# Altium schematic symbol library Schematic Library.SchLib: 16 symbols
Pins are listed as number, name and electrical type; pins without a type are passive.

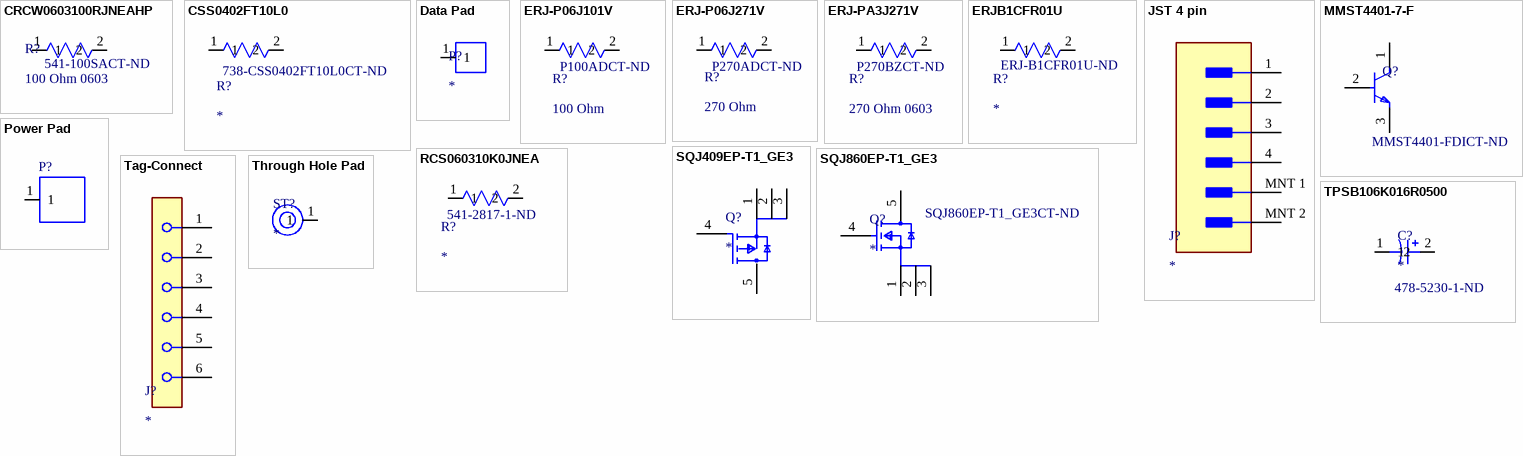
[diagram p0: symbols CRCW0603100RJNEAHP to TPSB106K016R0500]

## CRCW0603100RJNEAHP
designator R?, comment 100 Ohm 0603  Supplier Part Number 1: 541-100SACT-ND
Res Thick Film 0603 100 Ohm 5% 1/4W 200ppm/C Molded SMD SMD Paper T/R; Manufacturer: Vishay Dale; Manufacturer Part Number: CRCW0603100RJNEAHP; Resistance: 100R; Temperature Coefficient: 200ppm/°C; Power Rating: 250mW; Voltage Rating: 75V; Supplier 1: Digi-Key; RoHS: Yes; Category: Chip SMD Resistors; Stock 1: 23670; Pricing 1: 1=0.15000, 10=0.12900, 100=0.05060, 1000=0.02119, 2500=0.01942 (USD); Mount: Surface Mount; Case/Package: 0603; Case Code (Imperial): 0603; Case Code (Metric): 1608; Contact Plating: Tin; Weight: 7.1E-05oz; Min Operating Temperature: -55°C; Max Operating Temperature: 155°C; Tolerance: 5%; Packaging: Tape and Reel; Resistor Type: Thick Film; Series: CRCW-HP; Number of Terminations: 2; Package Quantity: 5000; Max Power Dissipation: 250mW; Termination: SMD/SMT; Construction: Rectangular; Features: Automotive AEC-Q200; Length: 1.6mm; Width: 0.8mm; Height: 0.45mm; Depth: 0.85mm; Radiation Hardening: No; RoHS Compliant: Yes; Military Standard: Not; Lead Free: Lead Free; ComponentLink1URL: https://datasheet.ciiva.com/5562/crcwhpe3-46056-5562229.pdf?src-supplier=Mouser; ComponentLink1Description: https://datasheet.ciiva.com/5562/crcwhpe3-46056-5562229.pdf?src-supplier=Mouser; ComponentLink2URL: https://datasheet.ciiva.com/8979/crcwhpe3-8979829.pdf?src-supplier=Avnet; ComponentLink2Description: https://datasheet.ciiva.com/8979/crcwhpe3-8979829.pdf?src-supplier=Avnet; ComponentLink3URL: https://datasheet.ciiva.com/16886/crcwhpe3-16886006.pdf?src-supplier=Avnet+Europe; ComponentLink3Description: https://datasheet.ciiva.com/16886/crcwhpe3-16886006.pdf?src-supplier=Avnet+Europe
footprint CRCW0603100RJNEAHP
pins: 1, 2

## CSS0402FT10L0
designator R?  Supplier Part Number 1: 738-CSS0402FT10L0CT-ND
Manufacturer: Stackpole Electronics; Manufacturer Part Number: CSS0402FT10L0; Supplier 1: Digi-Key; RoHS: No; Stock 1: 16958; Pricing 1: 1=0.56000, 10=0.40000, 25=0.31200, 50=0.26400, 100=0.20800, 250=0.17600, 500=0.14400, 1000=0.11200, 5000=0.10880 (USD)
footprint CSS0402FT10L0
pins: 1, 2

## Data Pad
designator P?  (no BOM)
footprint Data Pad
pins: 1

## ERJ-P06J101V
designator R?, comment 100 Ohm  Supplier Part Number 1: P100ADCT-ND
RES SMD 100 OHM 5% 1/2W 0805; Manufacturer: Panasonic; Manufacturer Part Number: ERJ-P06J101V; Resistance: 100R; Temperature Coefficient: 200ppm/°C; Power Rating: 500mW; Voltage Rating: 400V; Voltage Rating (DC): 150V; Supplier 1: Digi-Key; RoHS: Yes; Category: Chip SMD Resistors; Stock 1: 49980; Pricing 1: 1=0.10000, 10=0.09400, 100=0.03600, 1000=0.01584, 2500=0.01368 (USD); Mount: Surface Mount; Case/Package: 0805; Contact Plating: Tin; Case Code (Imperial): 0805; Case Code (Metric): 2012; Weight: 0.000194oz; Min Operating Temperature: -55°C; Max Operating Temperature: 155°C; Tolerance: 5%; Resistor Type: Thick Film; Packaging: Tape and Reel; Package Quantity: 1; Number of Terminations: 2; Max Power Dissipation: 500mW; Termination: SMD/SMT; Features: Automotive AEC-Q200; Length: 2mm; Width: 1.2mm; Height: 0.6mm; Depth: 1.25mm; Military Standard: Not; Lead Free: Lead Free; REACH SVHC: Unknown; ComponentLink1URL: https://datasheet.ciiva.com/11810/0900766b812cb812-11810156.pdf?src-supplier=RSComponents; ComponentLink1Description: https://datasheet.ciiva.com/11810/0900766b812cb812-11810156.pdf?src-supplier=RSComponents; ComponentLink2URL: https://datasheet.ciiva.com/16788/70068906-16788678.pdf?src-supplier=Allied+Electronics; ComponentLink2Description: https://datasheet.ciiva.com/16788/70068906-16788678.pdf?src-supplier=Allied+Electronics; ComponentLink3URL: https://datasheet.ciiva.com/24163/aoa0000ce4-64075-24163318.pdf?src-supplier=Mouser; ComponentLink3Description: https://datasheet.ciiva.com/24163/aoa0000ce4-64075-24163318.pdf?src-supplier=Mouser; ComponentLink4URL: https://datasheet.ciiva.com/7831/aoa0000ce4-7831000.pdf?src-supplier=Element14; ComponentLink4Description: https://datasheet.ciiva.com/7831/aoa0000ce4-7831000.pdf?src-supplier=Element14; ComponentLink5URL: https://datasheet.ciiva.com/17208/aoa0000ce4-17208010.pdf?src-supplier=Avnet+Europe; ComponentLink5Description: https://datasheet.ciiva.com/17208/aoa0000ce4-17208010.pdf?src-supplier=Avnet+Europe; ComponentLink6URL: https://datasheet.ciiva.com/9186/aoa0000ce4-9186844.pdf?src-supplier=Avnet; ComponentLink6Description: https://datasheet.ciiva.com/9186/aoa0000ce4-9186844.pdf?src-supplier=Avnet; ComponentLink7URL: https://datasheet.ciiva.com/16767/70068906-16767564.pdf?src-supplier=Allied+Electronics; ComponentLink7Description: https://datasheet.ciiva.com/16767/70068906-16767564.pdf?src-supplier=Allied+Electronics
footprint ERJ-P06J101V
pins: 1, 2

## ERJ-P06J271V
designator R?, comment 270 Ohm  Supplier Part Number 1: P270ADCT-ND
GLOVE, POLYAMIDE, L/FREE, PU, SIZE 6 - More Details; Manufacturer: Panasonic; Manufacturer Part Number: ERJ-P06J271V; Resistance: 270R; Temperature Coefficient: 200ppm/°C; Tolerance: 5%; Voltage Rating (DC): 150V; Power Rating: 500mW; Supplier 1: Digi-Key; RoHS: Yes; Category: Chip SMD Resistors; Stock 1: 54119; Pricing 1: 1=0.10000, 10=0.09400, 100=0.03600, 1000=0.01584, 2500=0.01368 (USD); Mount: Surface Mount; Case/Package: 0805; Contact Plating: Tin; Case Code (Metric): 2012; Case Code (Imperial): 0805; Min Operating Temperature: -55°C; Max Operating Temperature: 155°C; Resistor Type: Thick Film; Features: Automotive AEC-Q200; Number of Terminations: 2; Termination: SMD/SMT; Packaging: Tape and Reel; Package Quantity: 1; Voltage Rating: 150V; Max Power Dissipation: 500mW; Length: 2mm; Width: 0.049inch; Height: 0.028inch; Depth: 1.25mm; Radiation Hardening: No; Lead Free: Lead Free; Military Standard: Not; ComponentLink1URL: https://datasheet.ciiva.com/9183/aoa0000ce4-9183612.pdf?src-supplier=Avnet; ComponentLink1Description: https://datasheet.ciiva.com/9183/aoa0000ce4-9183612.pdf?src-supplier=Avnet; ComponentLink2URL: https://datasheet.ciiva.com/24068/aoa0000ce4-64075-24068630.pdf?src-supplier=Mouser; ComponentLink2Description: https://datasheet.ciiva.com/24068/aoa0000ce4-64075-24068630.pdf?src-supplier=Mouser; ComponentLink3URL: https://datasheet.ciiva.com/30107/aoa0000ce4-30107083.pdf?src-supplier=Onlinecomponents.com; ComponentLink3Description: https://datasheet.ciiva.com/30107/aoa0000ce4-30107083.pdf?src-supplier=Onlinecomponents.com
footprint ERJ-P06J271V
pins: 1, 2

## ERJ-PA3J271V
designator R?, comment 270 Ohm 0603  Supplier Part Number 1: P270BZCT-ND
Res Thick Film 0603 270 Ohm 5% 0.25W(1/4W) ±200ppm/C Pad SMD Automotive T/R; Manufacturer: Panasonic; Manufacturer Part Number: ERJ-PA3J271V; Resistance: 270R; Max Power Dissipation: 250mW; Temperature Coefficient: 200ppm/°C; Supplier 1: Digi-Key; RoHS: Yes; Category: Chip SMD Resistors; Stock 1: 14468; Pricing 1: 1=0.10000, 10=0.08600, 100=0.03300, 1000=0.01452, 2500=0.01254 (USD); Case/Package: 0603; Case Code (Imperial): 0603; Case Code (Metric): 1608; Min Operating Temperature: -55°C; Max Operating Temperature: 155°C; Tolerance: 5%; Features: Automotive AEC-Q200; Packaging: Tape and Reel; Resistor Type: Thick Film; Number of Terminations: 2; Length: 0.063inch; Width: 0.031inch; Height: 0.018inch; ComponentLink1URL: https://industrial.panasonic.com/cdbs/www-data/pdf/RDO0000/AOA0000C331.pdf?src-supplier=Digi-Key; ComponentLink1Description: https://industrial.panasonic.com/cdbs/www-data/pdf/RDO0000/AOA0000C331.pdf?src-supplier=Digi-Key; ComponentLink2URL: https://industrial.panasonic.com/ww/system/files/data/download/catalog/id_fixed-resistors_e_1.pdf?src-supplier=Digi-Key; ComponentLink2Description: https://industrial.panasonic.com/ww/system/files/data/download/catalog/id_fixed-resistors_e_1.pdf?src-supplier=Digi-Key
footprint ERJ-PA3J271V
pins: 1, 2

## ERJB1CFR01U
designator R?  Supplier Part Number 1: ERJ-B1CFR01U-ND
Res Thick Film 1020 0.01 Ohm 1% 2W ±350ppm/°C Molded SMD Embossed Carrier T/R; Manufacturer: Panasonic; Manufacturer Part Number: ERJB1CFR01U; Resistance: 10mR; Voltage Rating: 200V; Supplier 1: Digi-Key; RoHS: Yes; Category: Chip SMD Resistors; Pricing 1: 5000=0.51892 (USD); Mount: Surface Mount; Case/Package: 2010; Contact Plating: Tin; Case Code (Metric): 2550; Case Code (Imperial): 1020; Min Operating Temperature: -55°C; Max Operating Temperature: 155°C; Power Rating: 2W; Tolerance: 1%; Resistor Type: Thick Film; Temperature Coefficient: 350ppm/°C; Packaging: Tape and Reel; Package Quantity: 5000; Number of Terminations: 2; Max Power Dissipation: 2W; Voltage Rating (DC): 200V; Series: ERJ; Resistance Tolerance: 1%; Construction: Rectangular; Length: 2.5mm; Width: 0.197inch; Height: 0.03inch; Depth: 5mm; Radiation Hardening: No; REACH SVHC: No SVHC; Military Standard: Not; RoHS Compliant: Yes; ComponentLink1URL: https://datasheet.ciiva.com/43466/1688501-43466679.pdf?src-supplier=Farnell; ComponentLink1Description: https://datasheet.ciiva.com/43466/1688501-43466679.pdf?src-supplier=Farnell; ComponentLink2URL: https://datasheet.ciiva.com/46383/1688501-46383655.pdf?src-supplier=Element14; ComponentLink2Description: https://datasheet.ciiva.com/46383/1688501-46383655.pdf?src-supplier=Element14; ComponentLink3URL: https://datasheet.ciiva.com/46375/1688501-46375722.pdf?src-supplier=Element14; ComponentLink3Description: https://datasheet.ciiva.com/46375/1688501-46375722.pdf?src-supplier=Element14; ComponentLink4URL: https://datasheet.ciiva.com/9194/aoa0000ce23-9194124.pdf?src-supplier=Avnet; ComponentLink4Description: https://datasheet.ciiva.com/9194/aoa0000ce23-9194124.pdf?src-supplier=Avnet
footprint ERJ-B1CFR01U
pins: 1, 2

## JST 4 pin
designator J?
footprint JST_S4B-PH-SM4-TB_LF_SN_0
pins: 1, 2, 3, 4, MNT 1, MNT 2

## MMST4401-7-F
designator Q?  Supplier Part Number 1: MMST4401-FDICT-ND
TRANS NPN 40V 0.6A SC70-3; Manufacturer: Diodes; Manufacturer Part Number: MMST4401-7-F; Max Power Dissipation: 200mW; Collector Base Voltage (VCBO): 60V; Max Collector Current: 600mA; hFE Min: 20; Frequency: 250MHz; Emitter Base Voltage (VEBO): 6V; Number of Elements: 1; Element Configuration: Single; Collector-emitter Voltage-Max: 750mV; Supplier 1: Digi-Key; RoHS: Yes; Category: BJTs; Stock 1: 2577; Pricing 1: 1=0.25000, 10=0.20500, 25=0.17160, 100=0.10880, 500=0.07156, 1000=0.04865 (USD); Mount: Surface Mount; Case/Package: SOT-323; Number of Pins: 3; Weight: 0.000212oz; Min Operating Temperature: -55°C; Max Operating Temperature: 150°C; Collector Emitter Voltage (VCEO): 40V; Polarity: NPN; Packaging: Tape and Reel; Package Quantity: 3000; Collector Emitter Breakdown Voltage: 40V; Transition Frequency: 250MHz; Max Breakdown Voltage: 40V; Power Dissipation: 200mW; Max Frequency: 250MHz; Gain Bandwidth Product: 250MHz; Voltage Rating (DC): 40V; Current Rating: 600mA; Series: -; Length: 2.2mm; Width: 1.35mm; Height: 1mm; Radiation Hardening: No; REACH SVHC: No SVHC; Lead Free: Lead Free; ComponentLink1URL: https://datasheet.ciiva.com/5782/ds30084-5782785.pdf?src-supplier=Avnet; ComponentLink1Description: https://datasheet.ciiva.com/5782/ds30084-5782785.pdf?src-supplier=Avnet; ComponentLink2URL: https://datasheet.ciiva.com/5782/ds30084-5782785.pdf?src-supplier=Farnell; ComponentLink2Description: https://datasheet.ciiva.com/5782/ds30084-5782785.pdf?src-supplier=Farnell; ComponentLink3URL: https://datasheet.ciiva.com/26943/getdatasheetpartid-157337-26943118.pdf?src-supplier=Verical; ComponentLink3Description: https://datasheet.ciiva.com/26943/getdatasheetpartid-157337-26943118.pdf?src-supplier=Verical; ComponentLink4URL: https://datasheet.ciiva.com/17302/ds30084-17302987.pdf?src-supplier=Avnet+Europe; ComponentLink4Description: https://datasheet.ciiva.com/17302/ds30084-17302987.pdf?src-supplier=Avnet+Europe
footprint MMST4401-7-F (SOT-323)
pins: 1 C, 2 B, 3 E

## Power Pad
designator P?  (no BOM)
footprint Power Pad
pins: 1

## RCS060310K0JNEA
designator R?  Supplier Part Number 1: 541-2817-1-ND
RES SMD 10K OHM 5% 1/4W 0603; Manufacturer: Vishay Dale; Manufacturer Part Number: RCS060310K0JNEA; Max Power Dissipation: 250mW; Temperature Coefficient: 200ppm/°C; Resistance: 10kR; Supplier 1: Digi-Key; RoHS: Yes; Category: Chip SMD Resistors; Stock 1: 1896; Pricing 1: 1=0.14000, 10=0.12900, 100=0.04950, 1000=0.02178, 2500=0.01881 (USD); Case/Package: 0603; Case Code (Imperial): 0603; Case Code (Metric): 1608; Min Operating Temperature: -55°C; Max Operating Temperature: 155°C; Tolerance: 5%; Features: Automotive AEC-Q200; Packaging: Tape and Reel; Resistor Type: Thick Film; Number of Terminations: 2; Length: 0.061inch; Width: 0.033inch; Height: 0.02inch; ComponentLink1URL: http://www.vishay.com/docs/20065/rcse3.pdf?src-supplier=Digi-Key; ComponentLink1Description: http://www.vishay.com/docs/20065/rcse3.pdf?src-supplier=Digi-Key
footprint RCS060310K0JNEA
pins: 1, 2

## SQJ409EP-T1_GE3
designator Q?
footprint SQJ409EP-T1_GE3
pins: 1 S, 2 S, 3 S, 4 G, 5 D

## SQJ860EP-T1_GE3
designator Q?  Supplier Part Number 1: SQJ860EP-T1_GE3CT-ND
RESET GENERATOR SOT23; Manufacturer: Vishay; Manufacturer Part Number: SQJ860EP-T1_GE3; Supplier 1: Digi-Key; RoHS: No; Category: MOSFETs; Stock 1: 12489; Pricing 1: 1=0.92000, 10=0.79400, 25=0.75720, 100=0.54940, 500=0.45910, 1000=0.39072 (USD)
footprint SQJ860EP
pins: 1 S, 2 S, 3 S, 4 G, 5 D

## Tag-Connect
designator J?
footprint Tag-Connect_TC2030-IDC-NL_0
pins: 1, 2, 3, 4, 5, 6

## Through Hole Pad
designator ST?  (no BOM)
footprint THROUGH HOLE PAD
pins: 1

## TPSB106K016R0500
designator C?  Supplier Part Number 1: 478-5230-1-ND
CAP TANT 10UF 10% 16V SMD; Manufacturer: Kyocera AVX; Manufacturer Part Number: TPSB106K016R0500; Dielectric Material: Tantalum; ESR (Equivalent Series Resistance): 500mR; Leakage Current: 1.6uA; Polarity: Polar; Dissipation Factor: 6%; Supplier 1: Digi-Key; RoHS: Yes; Category: Tantalum Capacitors; Stock 1: 4; Pricing 1: 1=0.45000, 10=0.31900, 50=0.24140, 100=0.21030, 500=0.15580, 1000=0.13243 (USD); Mount: Surface Mount,PCB; Case/Package: 1210; Case Code (Metric): 3528; Case Code (Imperial): 1210; Min Operating Temperature: -55°C; Max Operating Temperature: 125°C; Capacitance: 10uF; Tolerance: 10%; Packaging: Tape and Reel; Package Quantity: 1; Voltage Rating: 16V; Voltage Rating (DC): 16V; Features: General Purpose; Termination: SMD/SMT; Voltage: 16V; Length: 3.5mm; Width: 0.11inch; Height: 1.9mm; Depth: 2.8mm; Height - Seated (Max): 0.083inch; Radiation Hardening: No; REACH SVHC: No SVHC; Lead Free: Lead Free; ComponentLink1URL: https://datasheet.ciiva.com/11793/0900766b80e0c35e-11793349.pdf?src-supplier=RSComponents; ComponentLink1Description: https://datasheet.ciiva.com/11793/0900766b80e0c35e-11793349.pdf?src-supplier=RSComponents; ComponentLink2URL: https://datasheet.ciiva.com/264/tps-264229.pdf?src-supplier=Digi-Key; ComponentLink2Description: https://datasheet.ciiva.com/264/tps-264229.pdf?src-supplier=Digi-Key; ComponentLink3URL: https://datasheet.ciiva.com/7730/1441576-7730869.pdf?src-supplier=Element14; ComponentLink3Description: https://datasheet.ciiva.com/7730/1441576-7730869.pdf?src-supplier=Element14; ComponentLink4URL: https://datasheet.ciiva.com/17339/tps-17339429.pdf?src-supplier=Avnet+Europe; ComponentLink4Description: https://datasheet.ciiva.com/17339/tps-17339429.pdf?src-supplier=Avnet+Europe; ComponentLink5URL: https://datasheet.ciiva.com/264/tps-264230.pdf?src-supplier=Digi-Key; ComponentLink5Description: https://datasheet.ciiva.com/264/tps-264230.pdf?src-supplier=Digi-Key; ComponentLink6URL: https://datasheet.ciiva.com/7730/1680477-7730870.pdf?src-supplier=Element14; ComponentLink6Description: https://datasheet.ciiva.com/7730/1680477-7730870.pdf?src-supplier=Element14; ComponentLink7URL: https://datasheet.ciiva.com/16500/tps-16500230.pdf?src-supplier=Future+Electronics; ComponentLink7Description: https://datasheet.ciiva.com/16500/tps-16500230.pdf?src-supplier=Future+Electronics; ComponentLink8URL: https://datasheet.ciiva.com/264/tps-264231.pdf?src-supplier=Digi-Key; ComponentLink8Description: https://datasheet.ciiva.com/264/tps-264231.pdf?src-supplier=Digi-Key; ComponentLink9URL: https://datasheet.ciiva.com/7730/1441576-7730871.pdf?src-supplier=Element14; ComponentLink9Description: https://datasheet.ciiva.com/7730/1441576-7730871.pdf?src-supplier=Element14; ComponentLink10URL: https://datasheet.ciiva.com/12882/tps-23028-12882919.pdf?src-supplier=Mouser; ComponentLink10Description: https://datasheet.ciiva.com/12882/tps-23028-12882919.pdf?src-supplier=Mouser; ComponentLink11URL: https://datasheet.ciiva.com/28609/packmark-28609112.pdf?src-supplier=Element14; ComponentLink11Description: https://datasheet.ciiva.com/28609/packmark-28609112.pdf?src-supplier=Element14; ComponentLink12URL: https://datasheet.ciiva.com/14599/70001047-14599898.pdf?src-supplier=Allied+Electronics; ComponentLink12Description: https://datasheet.ciiva.com/14599/70001047-14599898.pdf?src-supplier=Allied+Electronics; ComponentLink13URL: https://datasheet.ciiva.com/14605/70001047-14605902.pdf?src-supplier=Allied+Electronics; ComponentLink13Description: https://datasheet.ciiva.com/14605/70001047-14605902.pdf?src-supplier=Allied+Electronics
footprint TPSB106K016R0500
pins: 1, 2